# Altium footprint library bourns_srp7030ca.PcbLib: 1 footprints
Each footprint in its own frame and in the unit in brackets; x right, y up, seen from the top. Pads: shape width x height; smd on the part's side, far side on the other; paste and mask are expansions set on the pad; w line width, h text height; cw(c..) or ccw(c..) is an arc to the next point about the centre after c.
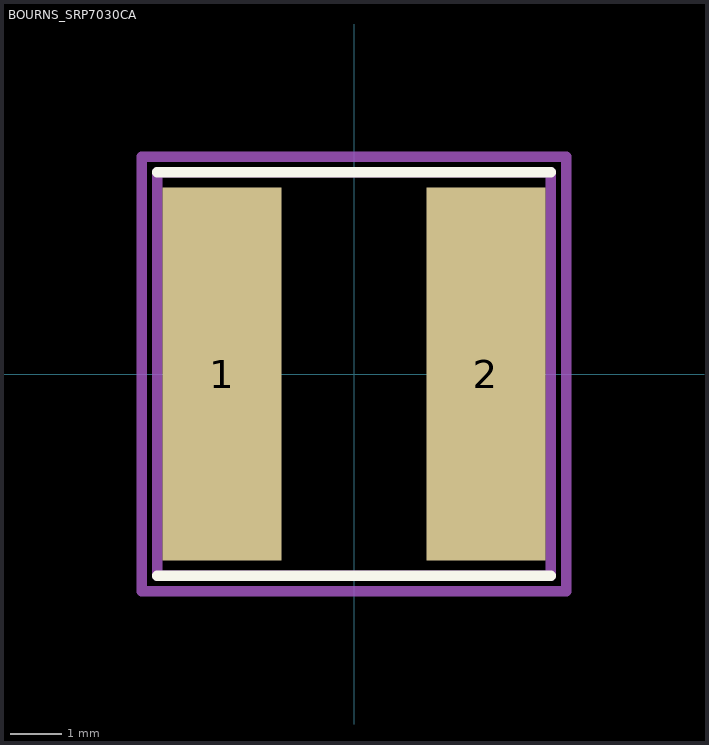
[diagram p0: the footprint, top view; thin cyan lines are the x and y axes]

## BOURNS_SRP7030CA [mm]
height 3.1
pads (2):
  rect 2.3x7.2 smd: 1(-2.55,0) 2(2.55,0)
Top Overlay:
  lines w0.2: -3.8,-3.9 3.8,-3.9 ; -3.8,3.9 3.8,3.9
Top 3D Body:
  lines w0.2: -3.8,-3.9 3.8,-3.9 3.8,3.9 -3.8,3.9 -3.8,-3.9
Top Courtyard:
  lines w0.2: -4.1,-4.2 -4.1,4.2 4.1,4.2 4.1,-4.2 -4.1,-4.2
Top Designator:
  text ".Designator" at -1.3,-0.2 h0.6
3D body "SRP7030CA.stp": height 3, standoff 0.01, extent -3.8,-3.9 3.8,3.9